# EAGLE library part 60POS-*MM-? (library con-wurth-board-header)
Wurth Elektronik WR-BHD Male Box Headers
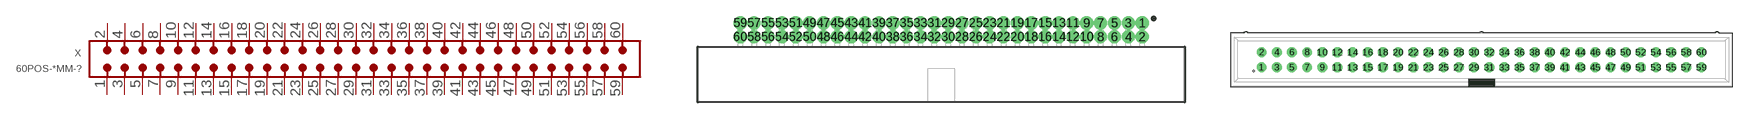
[diagram p7: symbol with the pads of 62706021721; footprints 62706021721, 61206021621]

Designator prefix X

## 60POS-1.27MM-62706021721 (CONTACT-RESISTANCE: 20mOhm; DATASHEET-URL: https://www.we-online.com/redexpert/spec/62706021721?ae; GENDER: Male; IR: 1A; LENGTH: 44.45mm; MOUNT: THT; PART-NUMBER: 62706021721; PINS: 60; PITCH: 1.27 mm; TYPE: Angled; VALUE: 62706021721; WORKING-VOLTAGE: 50V(AC))  [62706021721]
1  1  pas
2  2  pas
3  3  pas
4  4  pas
5  5  pas
6  6  pas
7  7  pas
8  8  pas
9  9  pas
10  10  pas
11  11  pas
12  12  pas
13  13  pas
14  14  pas
15  15  pas
16  16  pas
17  17  pas
18  18  pas
19  19  pas
20  20  pas
21  21  pas
22  22  pas
23  23  pas
24  24  pas
25  25  pas
26  26  pas
27  27  pas
28  28  pas
29  29  pas
30  30  pas
31  31  pas
32  32  pas
33  33  pas
34  34  pas
35  35  pas
36  36  pas
37  37  pas
38  38  pas
39  39  pas
40  40  pas
41  41  pas
42  42  pas
43  43  pas
44  44  pas
45  45  pas
46  46  pas
47  47  pas
48  48  pas
49  49  pas
50  50  pas
51  51  pas
52  52  pas
53  53  pas
54  54  pas
55  55  pas
56  56  pas
57  57  pas
58  58  pas
59  59  pas
60  60  pas

## 60POS-2.54MM-61206021621 (CONTACT-RESISTANCE: 20mOhm; DATASHEET-URL: https://www.we-online.com/redexpert/spec/61206021621?ae; GENDER: Male; IR: 3A; LENGTH: 83.86mm; MOUNT: THT; PACKAGING: Tray; PART-NUMBER: 61206021621; PINS: 60; PITCH: 2.54 mm; TYPE: Straight; VALUE: 61206021621; WORKING-VOLTAGE: 250V(AC))  [61206021621]
Pads as for 62706021721

## 60POS-2.54MM-61206022021 (CONTACT-RESISTANCE: 20mOhm; DATASHEET-URL: https://www.we-online.com/redexpert/spec/61206022021?ae; GENDER: Male; IR: 3A; LENGTH: 95.7mm; MOUNT: THT; PACKAGING: Tray; PART-NUMBER: 61206022021; PINS: 60; PITCH: 2.54 mm; TYPE: Straight; VALUE: 61206022021; WORKING-VOLTAGE: 250V(AC))  [61206022021]
Pads as for 62706021721

## 60POS-2.54MM-61206022921 (CONTACT-RESISTANCE: 20mOhm; DATASHEET-URL: https://www.we-online.com/redexpert/spec/61206022921?ae; GENDER: Male; IR: 3A; LENGTH: 95.7mm; MOUNT: THT; PACKAGING: Tray; PART-NUMBER: 61206022921; PINS: 60; PITCH: 2.54 mm; TYPE: Angled; VALUE: 61206022921; WORKING-VOLTAGE: 250V(AC))  [61206022921]
Pads as for 62706021721

## 60POS-1.27MM-62706021621 (CONTACT-RESISTANCE: 20mOhm; DATASHEET-URL: https://www.we-online.com/redexpert/spec/62706021621?ae; GENDER: Male; IR: 1A; LENGTH: 44.45mm; MOUNT: THT; PART-NUMBER: 62706021621; PINS: 60; PITCH: 1.27 mm; TYPE: Straight; VALUE: 62706021621; WORKING-VOLTAGE: 50V(AC))  [62706021621]
Pads as for 62706021721

## 60POS-2.54MM-61206022821 (CONTACT-RESISTANCE: 20mOhm; DATASHEET-URL: https://www.we-online.com/redexpert/spec/61206022821?ae; GENDER: Male; IR: 3A; LENGTH: 95.7mm; MOUNT: THT; PACKAGING: Tray; PART-NUMBER: 61206022821; PINS: 60; PITCH: 2.54 mm; TYPE: Straight; VALUE: 61206022821; WORKING-VOLTAGE: 250V(AC))  [61206022821]
Pads as for 62706021721

## 60POS-2.54MM-61206021721 (CONTACT-RESISTANCE: 20mOhm; DATASHEET-URL: https://www.we-online.com/redexpert/spec/61206021721?ae; GENDER: Male; IR: 3A; LENGTH: 83.86mm; MOUNT: THT; PACKAGING: Tray; PART-NUMBER: 61206021721; PINS: 60; PITCH: 2.54 mm; TYPE: Angled; VALUE: 61206021721; WORKING-VOLTAGE: 250V(AC))  [61206021721]
Pads as for 62706021721

## 60POS-2.54MM-61206022121 (CONTACT-RESISTANCE: 20mOhm; DATASHEET-URL: https://www.we-online.com/redexpert/spec/61206022121?ae; GENDER: Male; IR: 3A; LENGTH: 95.7mm; MOUNT: THT; PACKAGING: Tray; PART-NUMBER: 61206022121; PINS: 60; PITCH: 2.54 mm; TYPE: Angled; VALUE: 61206022121; WORKING-VOLTAGE: 250V(AC))  [61206022121]
Pads as for 62706021721

## Footprint 62706021721 (pad centres in mm)
WR-BHD 1,27mm Male THT Box Header Right angle, 60Pins
drill 0.7 pad 1.05: 1 18.415,4.72; 2 18.415,3.45; 3 17.145,4.72; 4 17.145,3.45; 5 15.875,4.72; 6 15.875,3.45; 7 14.605,4.72; 8 14.605,3.45; 9 13.335,4.72; 10 13.335,3.45; 11 12.065,4.72; 12 12.065,3.45; 13 10.795,4.72; 14 10.795,3.45; 15 9.525,4.72; 16 9.525,3.45; 17 8.255,4.72; 18 8.255,3.45; 19 6.985,4.72; 20 6.985,3.45; 21 5.715,4.72; 22 5.715,3.45; 23 4.445,4.72; 24 4.445,3.45; 25 3.175,4.72; 26 3.175,3.45; 27 1.905,4.72; 28 1.905,3.45; 29 0.635,4.72; 30 0.635,3.45; 31 -0.635,4.72; 32 -0.635,3.45; 33 -1.905,4.72; 34 -1.905,3.45; 35 -3.175,4.72; 36 -3.175,3.45; 37 -4.445,4.72; 38 -4.445,3.45; 39 -5.715,4.72; 40 -5.715,3.45; 41 -6.985,4.72; 42 -6.985,3.45; 43 -8.255,4.72; 44 -8.255,3.45; 45 -9.525,4.72; 46 -9.525,3.45; 47 -10.795,4.72; 48 -10.795,3.45; 49 -12.065,4.72; 50 -12.065,3.45; 51 -13.335,4.72; 52 -13.335,3.45; 53 -14.605,4.72; 54 -14.605,3.45; 55 -15.875,4.72; 56 -15.875,3.45; 57 -17.145,4.72; 58 -17.145,3.45; 59 -18.415,4.72; 60 -18.415,3.45

## Footprint 61206021621 (pad centres in mm)
WR-BHD 2.54 mm Male Box Header,60Pins
drill 1.1: 1 -36.83,-1.27; 2 -36.83,1.27; 3 -34.29,-1.27; 4 -34.29,1.27; 5 -31.75,-1.27; 6 -31.75,1.27; 7 -29.21,-1.27; 8 -29.21,1.27; 9 -26.67,-1.27; 10 -26.67,1.27; 11 -24.13,-1.27; 12 -24.13,1.27; 13 -21.59,-1.27; 14 -21.59,1.27; 15 -19.05,-1.27; 16 -19.05,1.27; 17 -16.51,-1.27; 18 -16.51,1.27; 19 -13.97,-1.27; 20 -13.97,1.27; 21 -11.43,-1.27; 22 -11.43,1.27; 23 -8.89,-1.27; 24 -8.89,1.27; 25 -6.35,-1.27; 26 -6.35,1.27; 27 -3.81,-1.27; 28 -3.81,1.27; 29 -1.27,-1.27; 30 -1.27,1.27; 31 1.27,-1.27; 32 1.27,1.27; 33 3.81,-1.27; 34 3.81,1.27; 35 6.35,-1.27; 36 6.35,1.27; 37 8.89,-1.27; 38 8.89,1.27; 39 11.43,-1.27; 40 11.43,1.27; 41 13.97,-1.27; 42 13.97,1.27; 43 16.51,-1.27; 44 16.51,1.27; 45 19.05,-1.27; 46 19.05,1.27; 47 21.59,-1.27; 48 21.59,1.27; 49 24.13,-1.27; 50 24.13,1.27; 51 26.67,-1.27; 52 26.67,1.27; 53 29.21,-1.27; 54 29.21,1.27; 55 31.75,-1.27; 56 31.75,1.27; 57 34.29,-1.27; 58 34.29,1.27; 59 36.83,-1.27; 60 36.83,1.27

## Footprint 61206022021 (pad centres in mm)
WR-BHD 2.54 mm Male Box Header with short lever 60 Pins
drill 1.02: 1 -36.83,-1.27; 2 -36.83,1.27; 3 -34.29,-1.27; 4 -34.29,1.27; 5 -31.75,-1.27; 6 -31.75,1.27; 7 -29.21,-1.27; 8 -29.21,1.27; 9 -26.67,-1.27; 10 -26.67,1.27; 11 -24.13,-1.27; 12 -24.13,1.27; 13 -21.59,-1.27; 14 -21.59,1.27; 15 -19.05,-1.27; 16 -19.05,1.27; 17 -16.51,-1.27; 18 -16.51,1.27; 19 -13.97,-1.27; 20 -13.97,1.27; 21 -11.43,-1.27; 22 -11.43,1.27; 23 -8.89,-1.27; 24 -8.89,1.27; 25 -6.35,-1.27; 26 -6.35,1.27; 27 -3.81,-1.27; 28 -3.81,1.27; 29 -1.27,-1.27; 30 -1.27,1.27; 31 1.27,-1.27; 32 1.27,1.27; 33 3.81,-1.27; 34 3.81,1.27; 35 6.35,-1.27; 36 6.35,1.27; 37 8.89,-1.27; 38 8.89,1.27; 39 11.43,-1.27; 40 11.43,1.27; 41 13.97,-1.27; 42 13.97,1.27; 43 16.51,-1.27; 44 16.51,1.27; 45 19.05,-1.27; 46 19.05,1.27; 47 21.59,-1.27; 48 21.59,1.27; 49 24.13,-1.27; 50 24.13,1.27; 51 26.67,-1.27; 52 26.67,1.27; 53 29.21,-1.27; 54 29.21,1.27; 55 31.75,-1.27; 56 31.75,1.27; 57 34.29,-1.27; 58 34.29,1.27; 59 36.83,-1.27; 60 36.83,1.27

## Footprint 61206022921 (pad centres in mm)
WR-BHD 2.54 mm Male Angled Box Header with long lever,60 Pins
drill 1.02: 1 36.83,7.36; 2 36.83,4.82; 3 34.29,7.36; 4 34.29,4.82; 5 31.75,7.36; 6 31.75,4.82; 7 29.21,7.36; 8 29.21,4.82; 9 26.67,7.36; 10 26.67,4.82; 11 24.13,7.36; 12 24.13,4.82; 13 21.59,7.36; 14 21.59,4.82; 15 19.05,7.36; 16 19.05,4.82; 17 16.51,7.36; 18 16.51,4.82; 19 13.97,7.36; 20 13.97,4.82; 21 11.43,7.36; 22 11.43,4.82; 23 8.89,7.36; 24 8.89,4.82; 25 6.35,7.36; 26 6.35,4.82; 27 3.81,7.36; 28 3.81,4.82; 29 1.27,7.36; 30 1.27,4.82; 31 -1.27,7.36; 32 -1.27,4.82; 33 -3.81,7.36; 34 -3.81,4.82; 35 -6.35,7.36; 36 -6.35,4.82; 37 -8.89,7.36; 38 -8.89,4.82; 39 -11.43,7.36; 40 -11.43,4.82; 41 -13.97,7.36; 42 -13.97,4.82; 43 -16.51,7.36; 44 -16.51,4.82; 45 -19.05,7.36; 46 -19.05,4.82; 47 -21.59,7.36; 48 -21.59,4.82; 49 -24.13,7.36; 50 -24.13,4.82; 51 -26.67,7.36; 52 -26.67,4.82; 53 -29.21,7.36; 54 -29.21,4.82; 55 -31.75,7.36; 56 -31.75,4.82; 57 -34.29,7.36; 58 -34.29,4.82; 59 -36.83,7.36; 60 -36.83,4.82

## Footprint 62706021621 (pad centres in mm)
WR-BHD 1.27mm Male THT Box Header Straight, 60Pins
drill 0.7 pad 1.05: 1 -18.415,-0.635; 2 -18.415,0.635; 3 -17.145,-0.635; 4 -17.145,0.635; 5 -15.875,-0.635; 6 -15.875,0.635; 7 -14.605,-0.635; 8 -14.605,0.635; 9 -13.335,-0.635; 10 -13.335,0.635; 11 -12.065,-0.635; 12 -12.065,0.635; 13 -10.795,-0.635; 14 -10.795,0.635; 15 -9.525,-0.635; 16 -9.525,0.635; 17 -8.255,-0.635; 18 -8.255,0.635; 19 -6.985,-0.635; 20 -6.985,0.635; 21 -5.715,-0.635; 22 -5.715,0.635; 23 -4.445,-0.635; 24 -4.445,0.635; 25 -3.175,-0.635; 26 -3.175,0.635; 27 -1.905,-0.635; 28 -1.905,0.635; 29 -0.635,-0.635; 30 -0.635,0.635; 31 0.635,-0.635; 32 0.635,0.635; 33 1.905,-0.635; 34 1.905,0.635; 35 3.175,-0.635; 36 3.175,0.635; 37 4.445,-0.635; 38 4.445,0.635; 39 5.715,-0.635; 40 5.715,0.635; 41 6.985,-0.635; 42 6.985,0.635; 43 8.255,-0.635; 44 8.255,0.635; 45 9.525,-0.635; 46 9.525,0.635; 47 10.795,-0.635; 48 10.795,0.635; 49 12.065,-0.635; 50 12.065,0.635; 51 13.335,-0.635; 52 13.335,0.635; 53 14.605,-0.635; 54 14.605,0.635; 55 15.875,-0.635; 56 15.875,0.635; 57 17.145,-0.635; 58 17.145,0.635; 59 18.415,-0.635; 60 18.415,0.635

## Footprint 61206022821 (pad centres in mm)
WR-BHD 2.54 mm Male Box Header with long lever,60 Pins
drill 1.02: 1 -36.83,-1.27; 2 -36.83,1.27; 3 -34.29,-1.27; 4 -34.29,1.27; 5 -31.75,-1.27; 6 -31.75,1.27; 7 -29.21,-1.27; 8 -29.21,1.27; 9 -26.67,-1.27; 10 -26.67,1.27; 11 -24.13,-1.27; 12 -24.13,1.27; 13 -21.59,-1.27; 14 -21.59,1.27; 15 -19.05,-1.27; 16 -19.05,1.27; 17 -16.51,-1.27; 18 -16.51,1.27; 19 -13.97,-1.27; 20 -13.97,1.27; 21 -11.43,-1.27; 22 -11.43,1.27; 23 -8.89,-1.27; 24 -8.89,1.27; 25 -6.35,-1.27; 26 -6.35,1.27; 27 -3.81,-1.27; 28 -3.81,1.27; 29 -1.27,-1.27; 30 -1.27,1.27; 31 1.27,-1.27; 32 1.27,1.27; 33 3.81,-1.27; 34 3.81,1.27; 35 6.35,-1.27; 36 6.35,1.27; 37 8.89,-1.27; 38 8.89,1.27; 39 11.43,-1.27; 40 11.43,1.27; 41 13.97,-1.27; 42 13.97,1.27; 43 16.51,-1.27; 44 16.51,1.27; 45 19.05,-1.27; 46 19.05,1.27; 47 21.59,-1.27; 48 21.59,1.27; 49 24.13,-1.27; 50 24.13,1.27; 51 26.67,-1.27; 52 26.67,1.27; 53 29.21,-1.27; 54 29.21,1.27; 55 31.75,-1.27; 56 31.75,1.27; 57 34.29,-1.27; 58 34.29,1.27; 59 36.83,-1.27; 60 36.83,1.27

## Footprint 61206021721 (pad centres in mm)
WR-BHD 2.54 mm Male Angled Box Header, 60 Pins
drill 1.1: 1 36.83,8.805; 2 36.83,6.265; 3 34.29,8.805; 4 34.29,6.265; 5 31.75,8.805; 6 31.75,6.265; 7 29.21,8.805; 8 29.21,6.265; 9 26.67,8.805; 10 26.67,6.265; 11 24.13,8.805; 12 24.13,6.265; 13 21.59,8.805; 14 21.59,6.265; 15 19.05,8.805; 16 19.05,6.265; 17 16.51,8.805; 18 16.51,6.265; 19 13.97,8.805; 20 13.97,6.265; 21 11.43,8.805; 22 11.43,6.265; 23 8.89,8.805; 24 8.89,6.265; 25 6.35,8.805; 26 6.35,6.265; 27 3.81,8.805; 28 3.81,6.265; 29 1.27,8.805; 30 1.27,6.265; 31 -1.27,8.805; 32 -1.27,6.265; 33 -3.81,8.805; 34 -3.81,6.265; 35 -6.35,8.805; 36 -6.35,6.265; 37 -8.89,8.805; 38 -8.89,6.265; 39 -11.43,8.805; 40 -11.43,6.265; 41 -13.97,8.805; 42 -13.97,6.265; 43 -16.51,8.805; 44 -16.51,6.265; 45 -19.05,8.805; 46 -19.05,6.265; 47 -21.59,8.805; 48 -21.59,6.265; 49 -24.13,8.805; 50 -24.13,6.265; 51 -26.67,8.805; 52 -26.67,6.265; 53 -29.21,8.805; 54 -29.21,6.265; 55 -31.75,8.805; 56 -31.75,6.265; 57 -34.29,8.805; 58 -34.29,6.265; 59 -36.83,8.805; 60 -36.83,6.265

## Footprint 61206022121 (pad centres in mm)
WR-BHD 2.54 mm Male Angled Box Header with short lever, 60 Pins
drill 1.02: 1 36.83,7.36; 2 36.83,4.82; 3 34.29,7.36; 4 34.29,4.82; 5 31.75,7.36; 6 31.75,4.82; 7 29.21,7.36; 8 29.21,4.82; 9 26.67,7.36; 10 26.67,4.82; 11 24.13,7.36; 12 24.13,4.82; 13 21.59,7.36; 14 21.59,4.82; 15 19.05,7.36; 16 19.05,4.82; 17 16.51,7.36; 18 16.51,4.82; 19 13.97,7.36; 20 13.97,4.82; 21 11.43,7.36; 22 11.43,4.82; 23 8.89,7.36; 24 8.89,4.82; 25 6.35,7.36; 26 6.35,4.82; 27 3.81,7.36; 28 3.81,4.82; 29 1.27,7.36; 30 1.27,4.82; 31 -1.27,7.36; 32 -1.27,4.82; 33 -3.81,7.36; 34 -3.81,4.82; 35 -6.35,7.36; 36 -6.35,4.82; 37 -8.89,7.36; 38 -8.89,4.82; 39 -11.43,7.36; 40 -11.43,4.82; 41 -13.97,7.36; 42 -13.97,4.82; 43 -16.51,7.36; 44 -16.51,4.82; 45 -19.05,7.36; 46 -19.05,4.82; 47 -21.59,7.36; 48 -21.59,4.82; 49 -24.13,7.36; 50 -24.13,4.82; 51 -26.67,7.36; 52 -26.67,4.82; 53 -29.21,7.36; 54 -29.21,4.82; 55 -31.75,7.36; 56 -31.75,4.82; 57 -34.29,7.36; 58 -34.29,4.82; 59 -36.83,7.36; 60 -36.83,4.82